# Altium schematic symbol library Schlib1.SchLib: 2 symbols
Pins are listed as number, name and electrical type; pins without a type are passive.

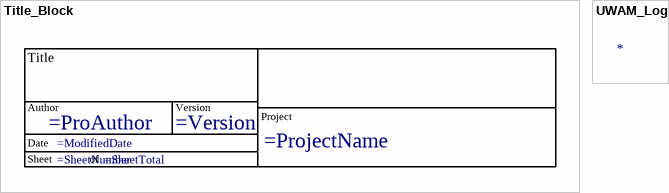
[diagram p0: symbols Title_Block to UWAM_Logo]

## Title_Block
designator ?
text: Title; Author; Version; Project; Date; Sheet; of

## UWAM_Logo
designator *  (value not drawn)
footprint UWAM_logo